# EAGLE library part AD5693R (library HFS4011sCustom)
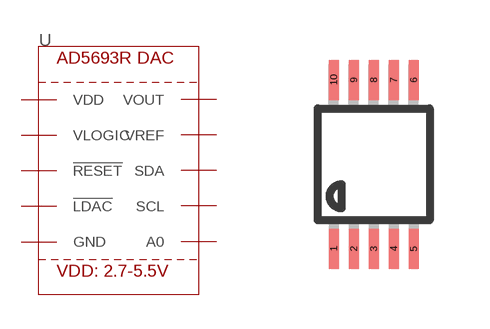
[diagram p2: symbol with the pads of MSOP10; footprint MSOP10]

Designator prefix U

## AD5693R  [MSOP10]
1  VDD  pas
2  VLOGIC  pas
3  !RESET!  pas
4  !LDAC!  pas
5  GND  pas
6  A0  pas
7  SCL  pas
8  SDA  pas
9  VREF  pas
10  VOUT  pas

## Footprint MSOP10 (pad centres in mm)
10-Lead Mini Small Outline Package [MSOP] (RM-10) Source: http://www.analog.com/UploadedFiles/Data_Sheets/35641221898805SSM2167_b.pdf COMPLIANT TO JEDEC STANDARDS MO-187BA
smd 0.25 x 1: 1 -1,-2.113; 2 -0.5,-2.113; 3 0,-2.113; 4 0.5,-2.113; 5 1,-2.113; 6 1,2.113; 7 0.5,2.113; 8 0,2.113; 9 -0.5,2.113; 10 -1,2.113